# EAGLE library part T120F324 (library EfinixTrio)
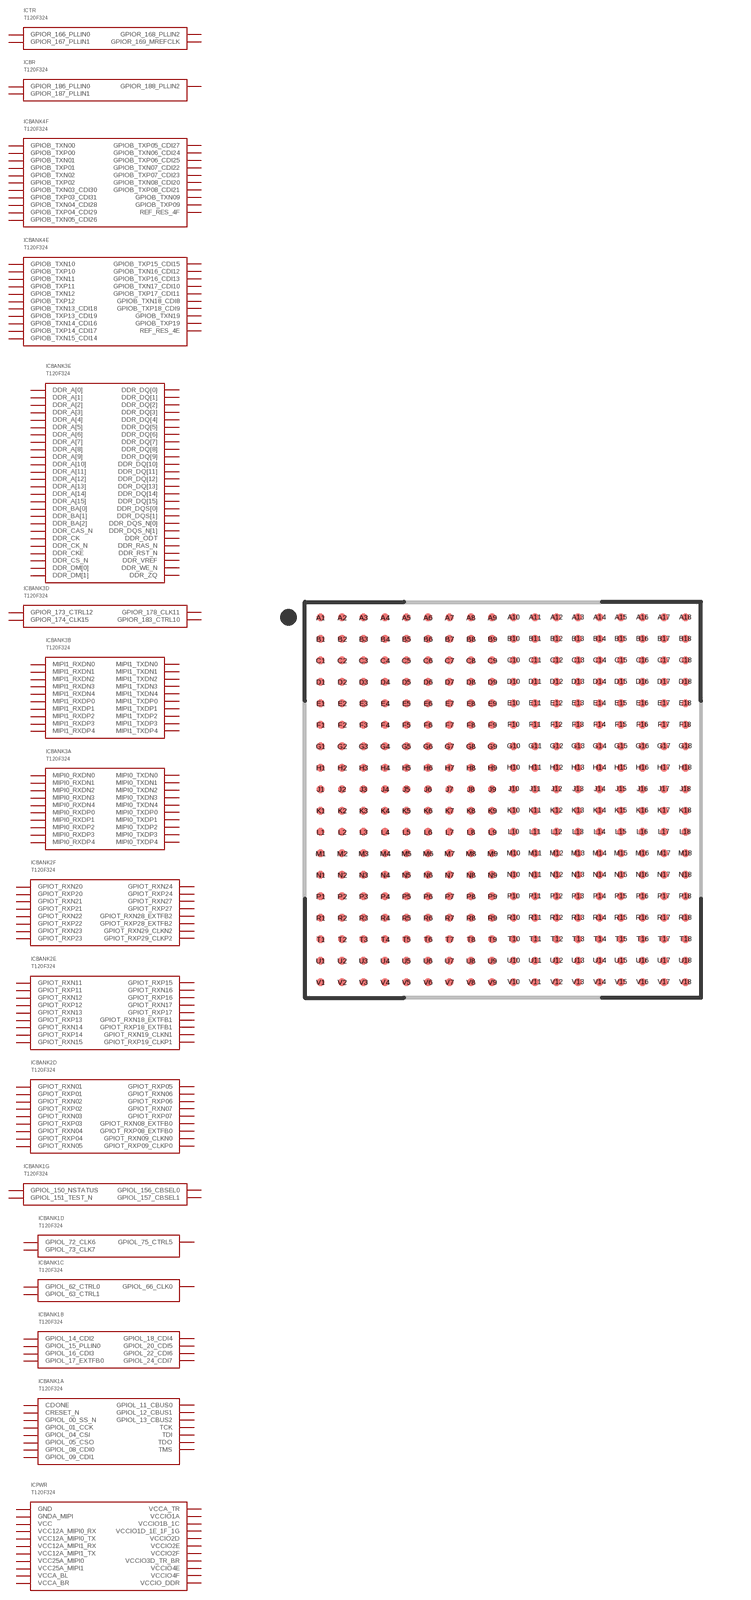
[diagram p0: symbol with the pads of FBGA324; footprint FBGA324]

Designator prefix IC; gates PWR=T120F324PWR BANK1A=T120F324BANK1A BANK1B=T120F324BANK1B BANK1C=T120F324BANK1C BANK1D=T120F324BANK1D BANK1G=T120F324BANK1G BANK2D=T120F324BANK2D BANK2E=T120F324BANK2E BANK2F=T120F324BANK2F BANK3A=T120F324BANK3A BANK3B=T120F324BANK3B BANK3D=T120F324BANK3D BANK3E=T120F324BANK3E BANK4E=T120F324BANK4E BANK4F=T120F324BANK4F BR=T120F324BR TR=T120F324TR

## T120F324  [FBGA324]
A1  PWR:GND  pwr
A2  BANK3B:MIPI1_TXDN1
A3  BANK3B:MIPI1_TXDN0
A4  BANK3A:MIPI0_TXDP4
A5  BANK3A:MIPI0_TXDP3
A6  BANK3A:MIPI0_TXDN0
A7  BANK3A:MIPI0_TXDP1
A8  BANK3A:MIPI0_TXDN2
A9  BANK2F:GPIOT_RXN29_CLKN2
A10  BANK2F:GPIOT_RXP28_EXTFB2
A11  BANK2F:GPIOT_RXP27
A12  BANK2F:GPIOT_RXP24
A13  BANK2F:GPIOT_RXN23
A14  BANK2F:GPIOT_RXN22
A15  BANK2F:GPIOT_RXN21
A16  BANK2F:GPIOT_RXN20
A17  BANK2E:GPIOT_RXP19_CLKP1
A18  PWR:GND  pwr
B1  BANK3B:MIPI1_TXDN2
B2  BANK3B:MIPI1_TXDP1
B3  BANK3B:MIPI1_TXDP0
B4  BANK3A:MIPI0_TXDN4
B5  BANK3A:MIPI0_TXDN3
B6  BANK3A:MIPI0_TXDP0
B7  BANK3A:MIPI0_TXDN1
B8  BANK3A:MIPI0_TXDP2
B9  BANK2F:GPIOT_RXP29_CLKP2
B10  BANK2F:GPIOT_RXN28_EXTFB2
B11  BANK2F:GPIOT_RXN27
B12  BANK2F:GPIOT_RXN24
B13  BANK2F:GPIOT_RXP23
B14  BANK2F:GPIOT_RXP22
B15  BANK2F:GPIOT_RXP21
B16  BANK2F:GPIOT_RXP20
B17  BANK2E:GPIOT_RXN19_CLKN1
B18  BANK2E:GPIOT_RXP18_EXTFB1
C1  BANK3B:MIPI1_TXDP2
C2  PWR:VCC12A_MIPI1_TX  pwr
C3  PWR:GNDA_MIPI  pwr
C4  PWR:VCC25A_MIPI1  pwr
C5  PWR:VCC12A_MIPI0_RX  pwr
C6  PWR:VCC12A_MIPI0_TX  pwr
C7  PWR:GNDA_MIPI  pwr
C8  PWR:GNDA_MIPI  pwr
C9  TR:GPIOR_166_PLLIN0
C10  PWR:VCCIO2F  pwr
C11  BANK2D:GPIOT_RXN03
C12  PWR:GND  pwr
C13  BANK2D:GPIOT_RXN01
C14  PWR:VCCIO2F  pwr
C15  PWR:GND  pwr
C16  BANK2D:GPIOT_RXP02
C17  PWR:VCCIO2E  pwr
C18  BANK2E:GPIOT_RXN18_EXTFB1
D1  BANK3B:MIPI1_TXDN4
D2  BANK3B:MIPI1_TXDP3
D3  BANK3B:MIPI1_RXDP4
D4  BANK3B:MIPI1_RXDP0
D5  BANK3A:MIPI0_RXDN0
D6  BANK3A:MIPI0_RXDN3
D7  PWR:VCC25A_MIPI0  pwr
D8  BANK3A:MIPI0_RXDN1
D9  TR:GPIOR_167_PLLIN1
D10  PWR:GND  pwr
D11  BANK2D:GPIOT_RXP03
D12  BANK2D:GPIOT_RXN06
D13  BANK2D:GPIOT_RXP01
D14  BANK2D:GPIOT_RXP05
D15  BANK2D:GPIOT_RXP04
D16  BANK2D:GPIOT_RXN02
D17  BANK2E:GPIOT_RXP15
D18  BANK2E:GPIOT_RXP16
E1  BANK3B:MIPI1_TXDP4
E2  BANK3B:MIPI1_TXDN3
E3  BANK3B:MIPI1_RXDN4
E4  BANK3B:MIPI1_RXDN0
E5  BANK3A:MIPI0_RXDP0
E6  BANK3A:MIPI0_RXDP3
E7  BANK3A:MIPI0_RXDP4
E8  BANK3A:MIPI0_RXDP1
E9  TR:GPIOR_168_PLLIN2
E10  PWR:VCCIO2D  pwr
E11  BANK2D:GPIOT_RXP08_EXTFB0
E12  BANK2D:GPIOT_RXP06
E13  BANK2D:GPIOT_RXP07
E14  BANK2D:GPIOT_RXN05
E15  BANK2D:GPIOT_RXN04
E16  BANK2D:GPIOT_RXP09_CLKP0
E17  BANK2E:GPIOT_RXN15
E18  BANK2E:GPIOT_RXN16
F1  BANK3B:MIPI1_RXDN2
F2  PWR:GNDA_MIPI  pwr
F3  BANK3B:MIPI1_RXDP1
F4  PWR:GND  pwr
F5  BANK3A:MIPI0_RXDN2
F6  BANK3A:MIPI0_RXDP2
F7  BANK3A:MIPI0_RXDN4
F8  PWR:VCCA_TR  pwr
F9  PWR:VCCA_TR  pwr
F10  TR:GPIOR_169_MREFCLK
F11  BANK2D:GPIOT_RXN08_EXTFB0
F12  PWR:VCCA_BL  pwr
F13  BANK2D:GPIOT_RXN07
F14  BANK2E:GPIOT_RXN14
F15  PWR:VCCIO2D  pwr
F16  BANK2D:GPIOT_RXN09_CLKN0
F17  PWR:GND  pwr
F18  PWR:VCCIO2E  pwr
G1  BANK3B:MIPI1_RXDP2
G2  BANK3B:MIPI1_RXDN3
G3  BANK3B:MIPI1_RXDN1
G4  BANK3E:DDR_DQ[15]
G5  BANK3D:GPIOR_173_CTRL12
G6  BANK3D:GPIOR_174_CLK15
G7  PWR:GND  pwr
G8  PWR:VCC  pwr
G9  PWR:GND  pwr
G10  PWR:VCC  pwr
G11  PWR:GND  pwr
G12  PWR:VCC  pwr
G13  BANK1D:GPIOL_75_CTRL5
G14  BANK2E:GPIOT_RXP14
G15  BANK2E:GPIOT_RXP13
G16  BANK2E:GPIOT_RXP12
G17  BANK2E:GPIOT_RXP11
G18  BANK2E:GPIOT_RXN17
H1  PWR:GND  pwr
H2  BANK3B:MIPI1_RXDP3
H3  PWR:VCC12A_MIPI1_RX  pwr
H4  BANK3E:DDR_DQ[13]
H5  BANK3E:DDR_DM[1]
H6  BANK3D:GPIOR_178_CLK11
H7  PWR:VCC  pwr
H8  PWR:GND  pwr
H9  PWR:VCC  pwr
H10  PWR:GND  pwr
H11  PWR:VCC  pwr
H12  PWR:GND  pwr
H13  BANK1D:GPIOL_73_CLK7
H14  BANK1D:GPIOL_72_CLK6
H15  BANK2E:GPIOT_RXN13
H16  BANK2E:GPIOT_RXN12
H17  BANK2E:GPIOT_RXN11
H18  BANK2E:GPIOT_RXP17
J1  BANK3E:DDR_DQ[8]
J2  PWR:VCCIO_DDR  pwr
J3  BANK3E:DDR_DQ[10]
J4  BANK3E:DDR_DQ[12]
J5  BANK3E:DDR_DQ[14]
J6  PWR:VCCIO3D_TR_BR  pwr
J7  PWR:GND  pwr
J8  PWR:VCC  pwr
J9  PWR:GND  pwr
J10  PWR:VCC  pwr
J11  PWR:GND  pwr
J12  PWR:VCC  pwr
J13  PWR:VCCIO1D_1E_1F_1G  pwr
J14  BANK1G:GPIOL_150_NSTATUS
J15  BANK1G:GPIOL_151_TEST_N
J16  PWR:GND  pwr
J17  BANK1G:GPIOL_156_CBSEL0
J18  BANK1G:GPIOL_157_CBSEL1
K1  BANK3E:DDR_DQ[6]
K2  BANK3E:DDR_DQ[9]
K3  BANK3E:DDR_DQ[11]
K4  PWR:VCCIO_DDR  pwr
K5  BANK3E:DDR_DQS[1]
K6  BANK3D:GPIOR_183_CTRL10
K7  PWR:VCC  pwr
K8  PWR:GND  pwr
K9  PWR:VCC  pwr
K10  PWR:GND  pwr
K11  PWR:VCC  pwr
K12  PWR:GND  pwr
K13  PWR:VCCIO1B_1C  pwr
K14  BANK1B:GPIOL_14_CDI2
K15  BANK1C:GPIOL_63_CTRL1
K16  BANK1C:GPIOL_62_CTRL0
K17  BANK1C:GPIOL_66_CLK0
K18  BANK1B:GPIOL_16_CDI3
L1  BANK3E:DDR_DM[0]
L2  PWR:VCCIO_DDR  pwr
L3  BANK3E:DDR_DQ[5]
L4  BANK3E:DDR_DQ[7]
L5  BANK3E:DDR_DQS_N[1]
L6  PWR:VCCIO_DDR  pwr
L7  PWR:GND  pwr
L8  PWR:VCC  pwr
L9  PWR:GND  pwr
L10  PWR:VCC  pwr
L11  PWR:GND  pwr
L12  PWR:VCC  pwr
L13  PWR:VCCIO1A  pwr
L14  BANK1B:GPIOL_15_PLLIN0
L15  BANK1B:GPIOL_17_EXTFB0
L16  BANK1B:GPIOL_22_CDI6
L17  BANK1B:GPIOL_24_CDI7
L18  BANK1B:GPIOL_20_CDI5
M1  PWR:GND  pwr
M2  BANK3E:DDR_DQ[3]
M3  BANK3E:DDR_DQS[0]
M4  BANK3E:DDR_DQ[4]
M5  PWR:GND  pwr
M6  BANK3E:DDR_VREF
M7  PWR:VCC  pwr
M8  PWR:GND  pwr
M9  PWR:VCC  pwr
M10  PWR:GND  pwr
M11  PWR:VCC  pwr
M12  PWR:GND  pwr
M13  BANK1A:GPIOL_08_CDI0
M14  BANK1A:GPIOL_11_CBUS0
M15  BANK1A:GPIOL_05_CSO
M16  BANK1A:GPIOL_12_CBUS1
M17  BANK1A:GPIOL_13_CBUS2
M18  BANK1B:GPIOL_18_CDI4
N1  BANK3E:DDR_DQ[2]
N2  BANK3E:DDR_DQ[1]
N3  BANK3E:DDR_DQS_N[0]
N4  BANK3E:DDR_DQ[0]
N5  BANK3E:DDR_ZQ
N6  BANK3E:DDR_CS_N
N7  BANK3E:DDR_CKE
N8  PWR:VCCA_BR  pwr
N9  BANK4E:GPIOB_TXP16_CDI13
N10  BANK4E:GPIOB_TXP14_CDI17
N11  BANK4E:GPIOB_TXP13_CDI19
N12  BANK4E:GPIOB_TXN12
N13  BANK1A:GPIOL_01_CCK
N14  BANK1A:GPIOL_09_CDI1
N15  BANK1A:GPIOL_04_CSI
N16  PWR:GND  pwr
N17  BANK1A:CRESET_N
N18  BANK1A:CDONE
P1  BANK3E:DDR_CK
P2  PWR:VCCIO_DDR  pwr
P3  BANK3E:DDR_A[0]
P4  BANK3E:DDR_A[1]
P5  PWR:VCCIO_DDR  pwr
P6  BANK3E:DDR_A[3]
P7  PWR:GND  pwr
P8  PWR:VCCA_BR  pwr
P9  BANK4E:GPIOB_TXN16_CDI12
P10  BANK4E:GPIOB_TXN14_CDI16
P11  BANK4E:GPIOB_TXN13_CDI18
P12  BANK4E:GPIOB_TXP12
P13  BANK4F:GPIOB_TXP09
P14  BANK4F:GPIOB_TXP07_CDI23
P15  BANK1A:GPIOL_00_SS_N
P16  BANK1A:TMS
P17  BANK1A:TDO
P18  BANK4F:GPIOB_TXN02
R1  BANK3E:DDR_CK_N
R2  PWR:GND  pwr
R3  BANK3E:DDR_A[5]
R4  PWR:GND  pwr
R5  BANK3E:DDR_BA[2]
R6  BANK3E:DDR_A[2]
R7  BANK3E:DDR_A[6]
R8  BR:GPIOR_188_PLLIN2
R9  BANK4E:GPIOB_TXN19
R10  PWR:GND  pwr
R11  PWR:VCCIO4E  pwr
R12  BANK4E:GPIOB_TXP11
R13  BANK4F:GPIOB_TXN09
R14  BANK4F:GPIOB_TXN07_CDI22
R15  BANK4F:GPIOB_TXN05_CDI26
R16  BANK1A:TDI
R17  BANK4F:GPIOB_TXN00
R18  BANK4F:GPIOB_TXP02
T1  BANK3E:DDR_A[4]
T2  BANK3E:DDR_RST_N
T3  BANK3E:DDR_A[9]
T4  BANK3E:DDR_A[8]
T5  BANK3E:DDR_BA[0]
T6  BANK3E:DDR_A[13]
T7  PWR:VCCIO_DDR  pwr
T8  BR:GPIOR_187_PLLIN1
T9  BANK4E:GPIOB_TXP19
T10  PWR:VCCIO4E  pwr
T11  BANK4E:GPIOB_TXN18_CDI8
T12  BANK4E:GPIOB_TXN11
T13  PWR:GND  pwr
T14  PWR:VCCIO4F  pwr
T15  BANK4F:GPIOB_TXP05_CDI27
T16  BANK1A:TCK
T17  BANK4F:GPIOB_TXP00
T18  BANK4F:GPIOB_TXN01
U1  BANK3E:DDR_ODT
U2  PWR:VCCIO_DDR  pwr
U3  BANK3E:DDR_BA[1]
U4  BANK3E:DDR_WE_N
U5  PWR:VCCIO_DDR  pwr
U6  BANK3E:DDR_A[12]
U7  BANK3E:DDR_A[11]
U8  BR:GPIOR_186_PLLIN0
U9  BANK4E:GPIOB_TXN17_CDI10
U10  BANK4E:GPIOB_TXP15_CDI15
U11  BANK4E:GPIOB_TXP18_CDI9
U12  BANK4E:GPIOB_TXN10
U13  BANK4F:GPIOB_TXN08_CDI20
U14  BANK4F:GPIOB_TXN06_CDI24
U15  BANK4F:GPIOB_TXP04_CDI29
U16  BANK4F:GPIOB_TXP03_CDI31
U17  PWR:VCCIO4F  pwr
U18  BANK4F:GPIOB_TXP01
V1  PWR:GND  pwr
V2  BANK3E:DDR_CAS_N
V3  BANK3E:DDR_RAS_N
V4  PWR:GND  pwr
V5  BANK3E:DDR_A[15]
V6  BANK3E:DDR_A[14]
V7  BANK3E:DDR_A[10]
V8  BANK3E:DDR_A[7]
V9  BANK4E:GPIOB_TXP17_CDI11
V10  BANK4E:GPIOB_TXN15_CDI14
V11  BANK4E:REF_RES_4E
V12  BANK4E:GPIOB_TXP10
V13  BANK4F:GPIOB_TXP08_CDI21
V14  BANK4F:GPIOB_TXP06_CDI25
V15  BANK4F:GPIOB_TXN04_CDI28
V16  BANK4F:GPIOB_TXN03_CDI30
V17  BANK4F:REF_RES_4F
V18  PWR:GND  pwr

## Footprint FBGA324 (pad centres in mm)
324-BGA, collapsing, 0.65 mm pitch, 12.00 X 12.00 X 0.97 mm body 324-pin collapsing BGA package with 0.65 mm col pitch and 0.65 mm row pitch with body size 12.00 X 12.00 X 0.97 mm
smd 0.25 x 0.25: A1 -5.525,5.525; A2 -4.875,5.525; A3 -4.225,5.525; A4 -3.575,5.525; A5 -2.925,5.525; A6 -2.275,5.525; A7 -1.625,5.525; A8 -0.975,5.525; A9 -0.325,5.525; A10 0.325,5.525; A11 0.975,5.525; A12 1.625,5.525; A13 2.275,5.525; A14 2.925,5.525; A15 3.575,5.525; A16 4.225,5.525; A17 4.875,5.525; A18 5.525,5.525; B1 -5.525,4.875; B2 -4.875,4.875; B3 -4.225,4.875; B4 -3.575,4.875; B5 -2.925,4.875; B6 -2.275,4.875; B7 -1.625,4.875; B8 -0.975,4.875; B9 -0.325,4.875; B10 0.325,4.875; B11 0.975,4.875; B12 1.625,4.875; B13 2.275,4.875; B14 2.925,4.875; B15 3.575,4.875; B16 4.225,4.875; B17 4.875,4.875; B18 5.525,4.875; C1 -5.525,4.225; C2 -4.875,4.225; C3 -4.225,4.225; C4 -3.575,4.225; C5 -2.925,4.225; C6 -2.275,4.225; C7 -1.625,4.225; C8 -0.975,4.225; C9 -0.325,4.225; C10 0.325,4.225; C11 0.975,4.225; C12 1.625,4.225; C13 2.275,4.225; C14 2.925,4.225; C15 3.575,4.225; C16 4.225,4.225; C17 4.875,4.225; C18 5.525,4.225; D1 -5.525,3.575; D2 -4.875,3.575; D3 -4.225,3.575; D4 -3.575,3.575; D5 -2.925,3.575; D6 -2.275,3.575; D7 -1.625,3.575; D8 -0.975,3.575; D9 -0.325,3.575; D10 0.325,3.575; D11 0.975,3.575; D12 1.625,3.575; D13 2.275,3.575; D14 2.925,3.575; D15 3.575,3.575; D16 4.225,3.575; D17 4.875,3.575; D18 5.525,3.575; E1 -5.525,2.925; E2 -4.875,2.925; E3 -4.225,2.925; E4 -3.575,2.925; E5 -2.925,2.925; E6 -2.275,2.925; E7 -1.625,2.925; E8 -0.975,2.925; E9 -0.325,2.925; E10 0.325,2.925; E11 0.975,2.925; E12 1.625,2.925; E13 2.275,2.925; E14 2.925,2.925; E15 3.575,2.925; E16 4.225,2.925; E17 4.875,2.925; E18 5.525,2.925; F1 -5.525,2.275; F2 -4.875,2.275; F3 -4.225,2.275; F4 -3.575,2.275; F5 -2.925,2.275; F6 -2.275,2.275; F7 -1.625,2.275; F8 -0.975,2.275; F9 -0.325,2.275; F10 0.325,2.275; F11 0.975,2.275; F12 1.625,2.275; F13 2.275,2.275; F14 2.925,2.275; F15 3.575,2.275; F16 4.225,2.275; F17 4.875,2.275; F18 5.525,2.275; G1 -5.525,1.625; G2 -4.875,1.625; G3 -4.225,1.625; G4 -3.575,1.625; G5 -2.925,1.625; G6 -2.275,1.625; G7 -1.625,1.625; G8 -0.975,1.625; G9 -0.325,1.625; G10 0.325,1.625; G11 0.975,1.625; G12 1.625,1.625; G13 2.275,1.625; G14 2.925,1.625; G15 3.575,1.625; G16 4.225,1.625; G17 4.875,1.625; G18 5.525,1.625; H1 -5.525,0.975; H2 -4.875,0.975; H3 -4.225,0.975; H4 -3.575,0.975; H5 -2.925,0.975; H6 -2.275,0.975; H7 -1.625,0.975; H8 -0.975,0.975; H9 -0.325,0.975; H10 0.325,0.975; H11 0.975,0.975; H12 1.625,0.975; H13 2.275,0.975; H14 2.925,0.975; H15 3.575,0.975; H16 4.225,0.975; H17 4.875,0.975; H18 5.525,0.975; J1 -5.525,0.325; J2 -4.875,0.325; J3 -4.225,0.325; J4 -3.575,0.325; J5 -2.925,0.325; J6 -2.275,0.325; J7 -1.625,0.325; J8 -0.975,0.325; J9 -0.325,0.325; J10 0.325,0.325; J11 0.975,0.325; J12 1.625,0.325; J13 2.275,0.325; J14 2.925,0.325; J15 3.575,0.325; J16 4.225,0.325; J17 4.875,0.325; J18 5.525,0.325; K1 -5.525,-0.325; K2 -4.875,-0.325; K3 -4.225,-0.325; K4 -3.575,-0.325; K5 -2.925,-0.325; K6 -2.275,-0.325; K7 -1.625,-0.325; K8 -0.975,-0.325; K9 -0.325,-0.325; K10 0.325,-0.325; K11 0.975,-0.325; K12 1.625,-0.325; K13 2.275,-0.325; K14 2.925,-0.325; K15 3.575,-0.325; K16 4.225,-0.325; K17 4.875,-0.325; K18 5.525,-0.325; L1 -5.525,-0.975; L2 -4.875,-0.975; L3 -4.225,-0.975; L4 -3.575,-0.975; L5 -2.925,-0.975; L6 -2.275,-0.975; L7 -1.625,-0.975; L8 -0.975,-0.975; L9 -0.325,-0.975; L10 0.325,-0.975; L11 0.975,-0.975; L12 1.625,-0.975; L13 2.275,-0.975; L14 2.925,-0.975; L15 3.575,-0.975; L16 4.225,-0.975; L17 4.875,-0.975; L18 5.525,-0.975; M1 -5.525,-1.625; M2 -4.875,-1.625; M3 -4.225,-1.625; M4 -3.575,-1.625; M5 -2.925,-1.625; M6 -2.275,-1.625; M7 -1.625,-1.625; M8 -0.975,-1.625; M9 -0.325,-1.625; M10 0.325,-1.625; M11 0.975,-1.625; M12 1.625,-1.625; M13 2.275,-1.625; M14 2.925,-1.625; M15 3.575,-1.625; M16 4.225,-1.625; M17 4.875,-1.625; M18 5.525,-1.625; N1 -5.525,-2.275; N2 -4.875,-2.275; N3 -4.225,-2.275; N4 -3.575,-2.275; N5 -2.925,-2.275; N6 -2.275,-2.275; N7 -1.625,-2.275; N8 -0.975,-2.275; N9 -0.325,-2.275; N10 0.325,-2.275; N11 0.975,-2.275; N12 1.625,-2.275; N13 2.275,-2.275; N14 2.925,-2.275; N15 3.575,-2.275; N16 4.225,-2.275; N17 4.875,-2.275; N18 5.525,-2.275; P1 -5.525,-2.925; P2 -4.875,-2.925; P3 -4.225,-2.925; P4 -3.575,-2.925; P5 -2.925,-2.925; P6 -2.275,-2.925; P7 -1.625,-2.925; P8 -0.975,-2.925; P9 -0.325,-2.925; P10 0.325,-2.925; P11 0.975,-2.925; P12 1.625,-2.925; P13 2.275,-2.925; P14 2.925,-2.925; P15 3.575,-2.925; P16 4.225,-2.925; P17 4.875,-2.925; P18 5.525,-2.925; R1 -5.525,-3.575; R2 -4.875,-3.575; R3 -4.225,-3.575; R4 -3.575,-3.575; R5 -2.925,-3.575; R6 -2.275,-3.575; R7 -1.625,-3.575; R8 -0.975,-3.575; R9 -0.325,-3.575; R10 0.325,-3.575; R11 0.975,-3.575; R12 1.625,-3.575; R13 2.275,-3.575; R14 2.925,-3.575; R15 3.575,-3.575; R16 4.225,-3.575; R17 4.875,-3.575; R18 5.525,-3.575; T1 -5.525,-4.225; T2 -4.875,-4.225; T3 -4.225,-4.225; T4 -3.575,-4.225; T5 -2.925,-4.225; T6 -2.275,-4.225; T7 -1.625,-4.225; T8 -0.975,-4.225; T9 -0.325,-4.225; T10 0.325,-4.225; T11 0.975,-4.225; T12 1.625,-4.225; T13 2.275,-4.225; T14 2.925,-4.225; T15 3.575,-4.225; T16 4.225,-4.225; T17 4.875,-4.225; T18 5.525,-4.225; U1 -5.525,-4.875; U2 -4.875,-4.875; U3 -4.225,-4.875; U4 -3.575,-4.875; U5 -2.925,-4.875; U6 -2.275,-4.875; U7 -1.625,-4.875; U8 -0.975,-4.875; U9 -0.325,-4.875; U10 0.325,-4.875; U11 0.975,-4.875; U12 1.625,-4.875; U13 2.275,-4.875; U14 2.925,-4.875; U15 3.575,-4.875; U16 4.225,-4.875; U17 4.875,-4.875; U18 5.525,-4.875; V1 -5.525,-5.525; V2 -4.875,-5.525; V3 -4.225,-5.525; V4 -3.575,-5.525; V5 -2.925,-5.525; V6 -2.275,-5.525; V7 -1.625,-5.525; V8 -0.975,-5.525; V9 -0.325,-5.525; V10 0.325,-5.525; V11 0.975,-5.525; V12 1.625,-5.525; V13 2.275,-5.525; V14 2.925,-5.525; V15 3.575,-5.525; V16 4.225,-5.525; V17 4.875,-5.525; V18 5.525,-5.525